# EAGLE library part CH32V003 (library CH32LEDBoardCommon_v50)
Check availability <https://pricing.snapeda.com/parts/ATTINY816-MF/Microchip%20Technology/view-part?ref=eda>
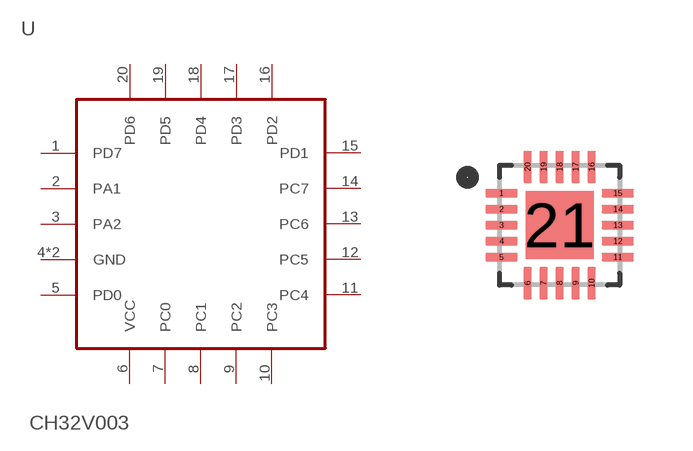
[diagram p0: symbol with the pads of QFN40P300X300X90-21N; footprint QFN40P300X300X90-21N]

Designator prefix U

## CH32V003 (AVAILABILITY: In Stock; CHECK_PRICES: https://www.snapeda.com/parts/ATTINY816-MF/Microchip/view-part/?ref=eda; DESCRIPTION: AVR tinyAVR™ 1, Functional Safety (FuSa) Microcontroller IC 8-Bit 16MHz 8KB (8K x 8) FLASH 20-VQFN (3x3); MF: Microchip Technology; MP: ATTINY816-MF; PACKAGE: None; PRICE: None; SNAPEDA_LINK: https://www.snapeda.com/parts/ATTINY816-MF/Microchip/view-part/?ref=snap)  [QFN40P300X300X90-21N]
1  PD7  in
2  PA1  in
3  PA2  in
4  GND  pas
5  PD0  in
6  VCC  pwr
7  PC0  in
8  PC1  in
9  PC2  in
10  PC3  out
11  PC4  out
12  PC5  out
13  PC6  out
14  PC7  out
15  PD1  out
16  PD2  out
17  PD3  out
18  PD4
19  PD5  in
20  PD6  in
21  GND  pas

## Footprint QFN40P300X300X90-21N (pad centres in mm)
smd 0.81 x 0.22: 1 -1.455,0.8; 2 -1.455,0.4; 3 -1.455,0; 4 -1.455,-0.4; 5 -1.455,-0.8; 11 1.455,-0.8; 12 1.455,-0.4; 13 1.455,0; 14 1.455,0.4; 15 1.455,0.8
smd 0.22 x 0.81: 6 -0.8,-1.455; 7 -0.4,-1.455; 8 0,-1.455; 9 0.4,-1.455; 10 0.8,-1.455; 16 0.8,1.455; 17 0.4,1.455; 18 0,1.455; 19 -0.4,1.455; 20 -0.8,1.455
smd 1.7 x 1.7: 21 0,0